# Altium footprint library PCB - CONNECTOR - HIROSE - HIROSE DM3CS.PCBLIB: 1 footprints
Each footprint in its own frame and in the unit in brackets; x right, y up, seen from the top. Pads: shape width x height; smd on the part's side, far side on the other; paste and mask are expansions set on the pad; w line width, h text height; cw(c..) or ccw(c..) is an arc to the next point about the centre after c.
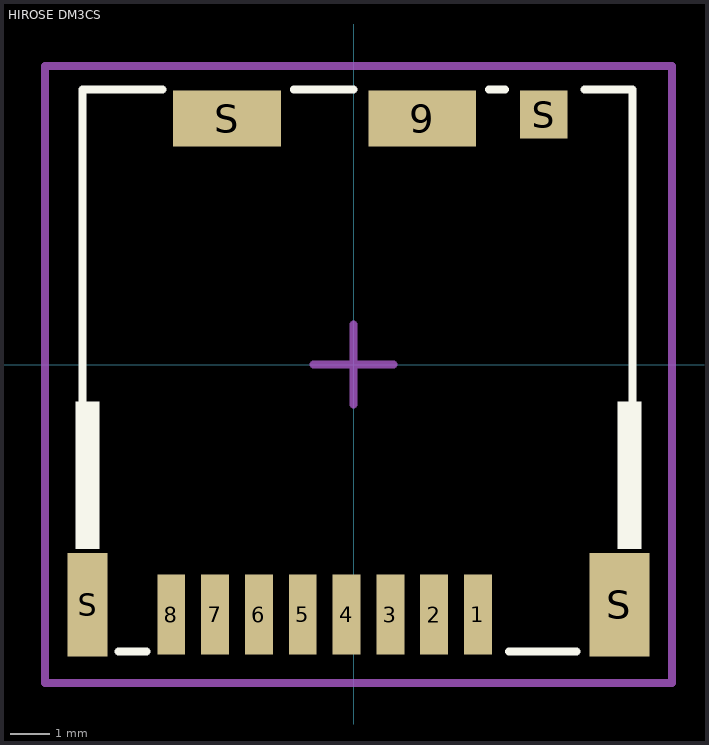
[diagram p0: the footprint, top view; thin cyan lines are the x and y axes]

## HIROSE DM3CS [mm]
height 1.83
pads (13):
  rect 0.7x2 smd: 1(3.125,-6.275) 2(2.025,-6.275) 3(0.925,-6.275) 4(-0.175,-6.275) 5(-1.275,-6.275) 6(-2.375,-6.275) 7(-3.475,-6.275) 8(-4.575,-6.275)
  rect 2.7x1.4 smd: 9(1.725,6.175) S(-3.175,6.175)
  rect 1x2.6 smd: S(-6.675,-6.025)
  rect 1.2x1.2 smd: S(4.775,6.275)
  rect 1.5x2.6 smd: S(6.675,-6.025)
Top Overlay:
  rectangle: -6.975,-4.625 -6.375,-0.925
  rectangle: 6.625,-4.625 7.225,-0.925
  lines w0.2: -6.7,-4.4 -6.8,-4.3 -6.8,6.9 -4.8,6.9 ; -5.9,-7.2 -5.2,-7.2 ; -1.5,6.9 0,6.9 ; 3.4,6.9 3.8,6.9 ; 3.9,-7.2 5.6,-7.2 ; 5.8,6.9 7,6.9 7,-4.4
Mechanical 15:
  lines w0.2: -1,0 1,0 ; 0,-1 0,1 ; -7.75,-8 8,-8 8,7.5 -7.75,7.5 -7.75,-8
3D body "Hirose DM3CS-SF.STEP": height 1.93, standoff 0, extent -6.8,-7.2 7,6.9